# Altium schematic symbol library 8-1676481-6.SchLib: 1 symbol
Pins are listed as number, name and electrical type; pins without a type are passive.

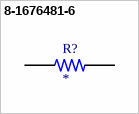
[diagram p0: symbol 8-1676481-6]

## 8-1676481-6
designator R?
CPF 0603 10K 0.1% 25PPM 1K RL; MP: 8-1676481-6; Package: None; Price: None; Value: *; Availability: Unavailable
footprint RESC1608X50N
pins: 1, 2